# Altium footprint library DF51KB-2P-2DS(800).PcbLib: 1 footprints
Each footprint in its own frame and in the unit in brackets; x right, y up, seen from the top. Pads: shape width x height; smd on the part's side, far side on the other; paste and mask are expansions set on the pad; w line width, h text height; cw(c..) or ccw(c..) is an arc to the next point about the centre after c.
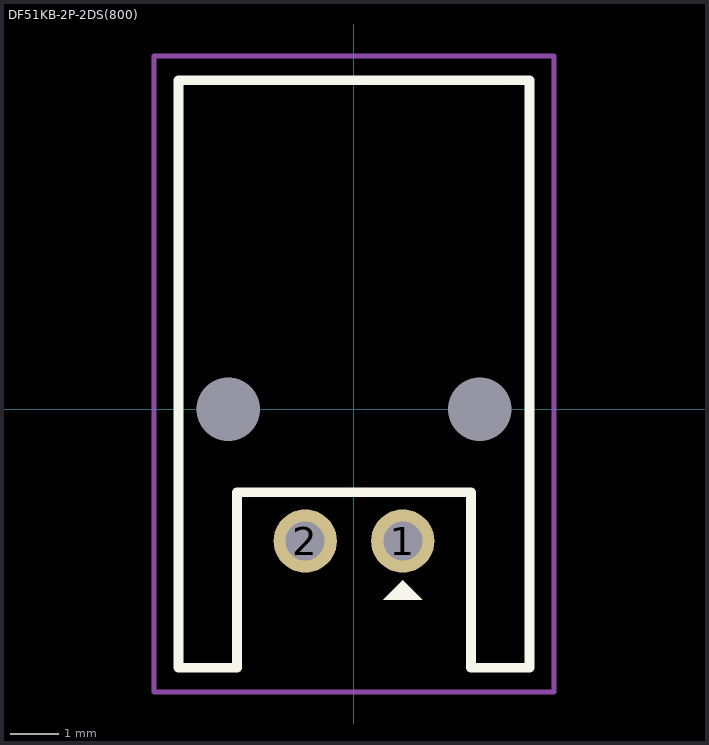
[diagram p0: the footprint, top view; thin cyan lines are the x and y axes]

## DF51KB-2P-2DS(800) [mm]
pads (4):
  round 1.3 hole 0.8: 1(1,-2.7) 2(-1,-2.7)
  round 0 hole 1.3 unplated paste-2539.97 mask+0: ""(-2.575,0) ""(2.575,0)
Top Overlay:
  region: 1.4,-3.9 0.6,-3.9 1,-3.5
  lines w0.2: 3.6,-5.275 3.6,-5.3 ; 3.6,-5.3 3.6,6.75 -3.6,6.75 -3.6,-5.3 -2.4,-5.3 -2.4,-1.7 2.4,-1.7 2.4,-5.3 3.6,-5.3
Top Courtyard:
  lines w0.1: -4.1,-5.8 -4.1,-5.3 -4.1,7.25 4.1,7.25 4.1,-5.8 -4.1,-5.8
3D body "DF51KB-2P-2DS_4800587000_3D.stp": height 6.32, standoff -2.98, extent -3.6,-5.3 3.6,6.75